# EAGLE library part SST25VF010A-33-4I-SAE (library Silicon_Storage_Tech_By_element14_Batch_1)
1 Mbit SPI Serial Flash
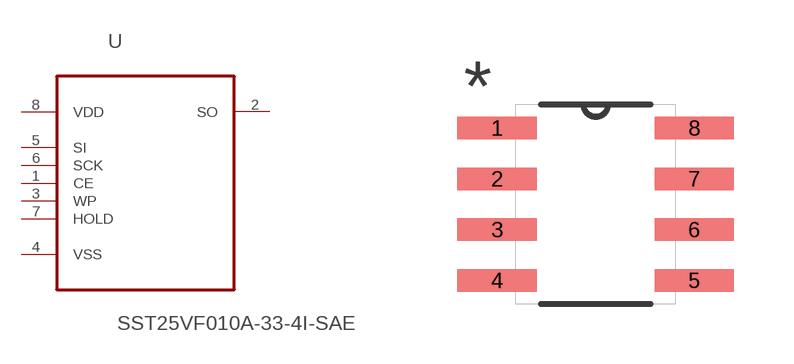
[diagram p1: symbol with the pads of SOIC127P600X175-8N; footprint SOIC127P600X175-8N]

Designator prefix U

## SST25VF010A-33-4I-SAE (MPN: SST25VF010A-33-4I-SAE; OC_FARNELL: 1368686; OC_NEWARK: 54M1121; PACKAGE: SOIC-8; SUPPLIER: SILICON STORAGE TECHNOLOGY)  [SOIC127P600X175-8N]
1  CE  in
2  SO  out
3  WP  in
4  VSS  pas
5  SI  in
6  SCK  in
7  HOLD  in
8  VDD  pwr

## Footprint SOIC127P600X175-8N (pad centres in mm)
smd 1.981 x 0.559: 1 -2.464,1.905; 2 -2.464,0.635; 3 -2.464,-0.635; 4 -2.464,-1.905; 5 2.464,-1.905; 6 2.464,-0.635; 7 2.464,0.635; 8 2.464,1.905